# Altium footprint library Pcblib_20110825.Pcblib: 408 footprints (part 6 of 26)
Each footprint in its own frame and in the unit in brackets; x right, y up, seen from the top. Pads: shape width x height; smd on the part's side, far side on the other; paste and mask are expansions set on the pad; w line width, h text height; cw(c..) or ccw(c..) is an arc to the next point about the centre after c.
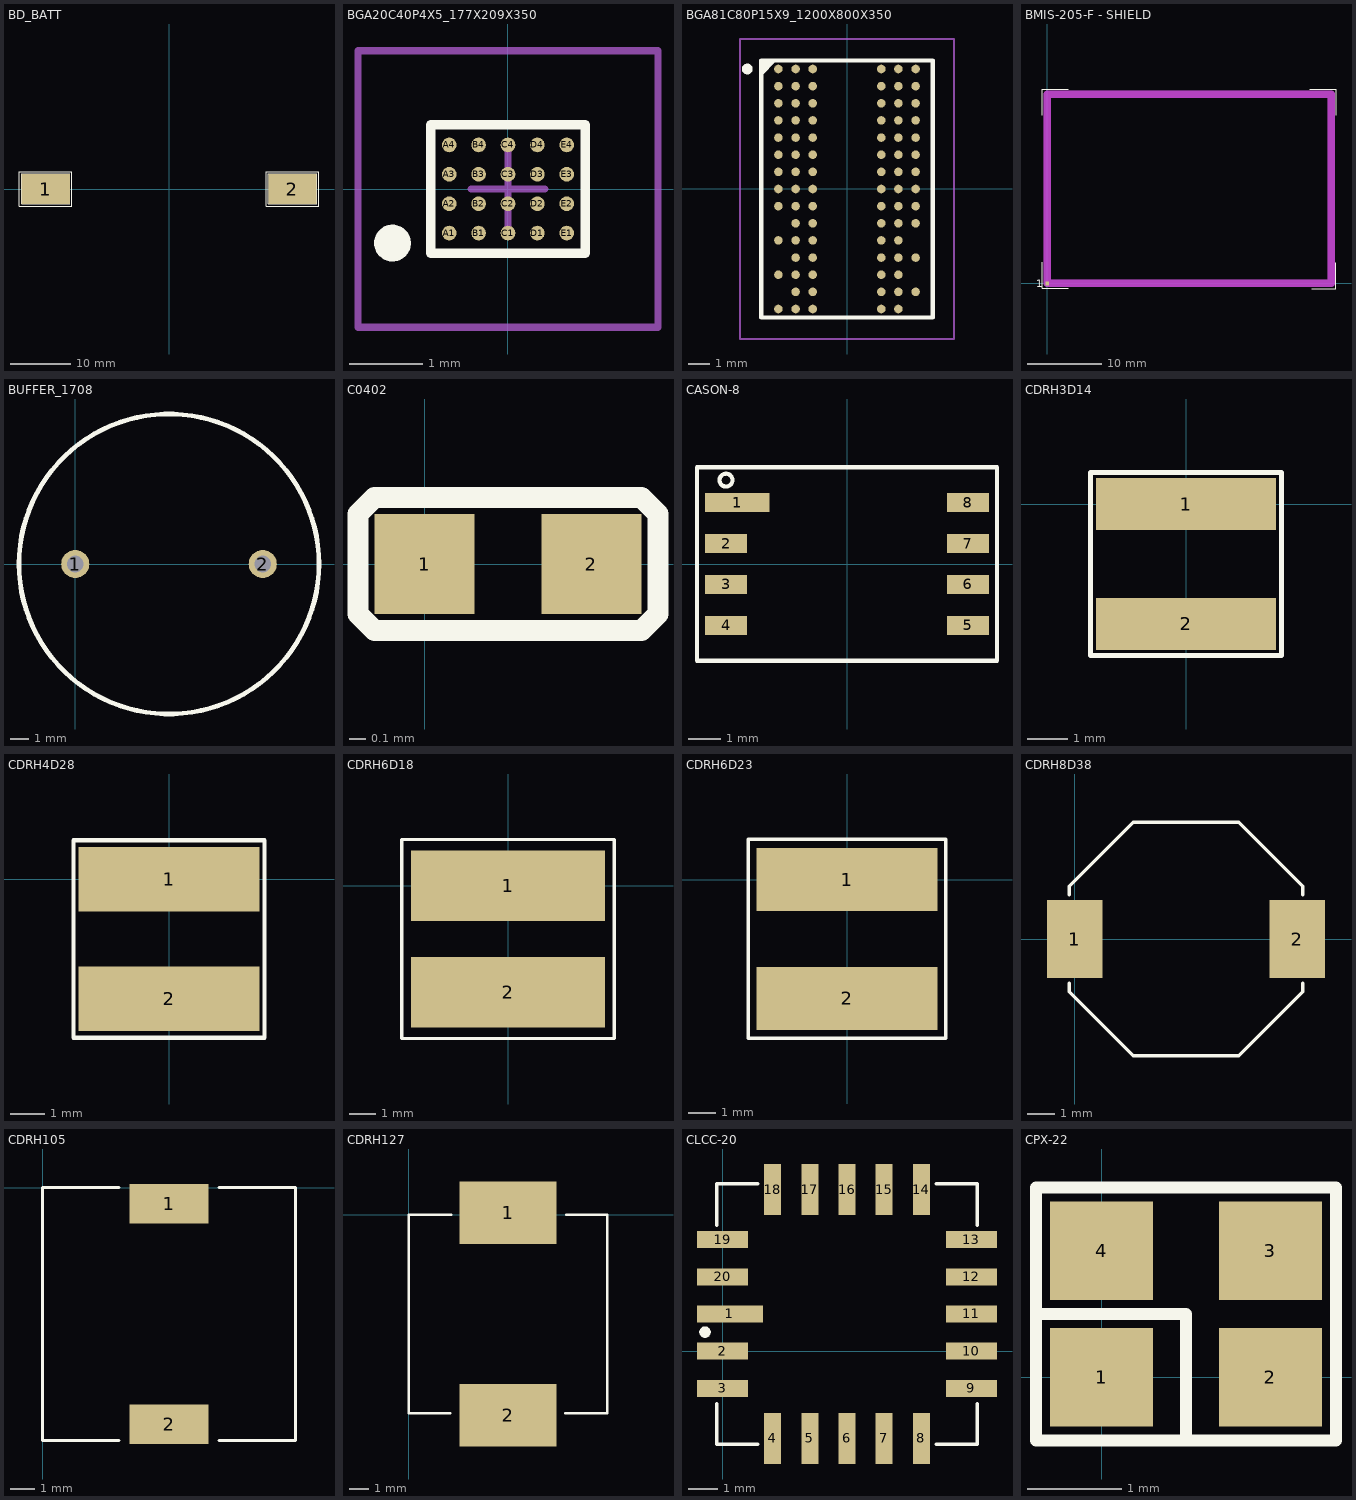
[diagram p5: the footprints below, top view; thin cyan lines are the x and y axes]

## BD_BATT [mm]
pads (2):
  rect 8x5 smd: 1(-20.475,0) 2(20.475,0)
TopOverlay:
  lines w0.178: -24.925,-2.875 -24.925,2.825 -16.128,2.825 -16.128,-2.875 -24.925,-2.875 ; -24.509,-2.487 -24.509,2.513 -16.509,2.513 -16.509,-2.487 -24.509,-2.487 ; 16.13,-2.875 16.13,2.825 24.875,2.825 24.875,-2.875 16.13,-2.875 ; 16.491,-2.487 16.491,2.513 24.491,2.513 24.491,-2.487 16.491,-2.487

## BGA20C40P4X5_177X209X350 [mm] "BGA, 20-Leads, Body 1.8x2.1mm,  Pitch 0.40mm"
height 3.5
pads (20):
  round 0.2 smd: A1(-0.8,-0.6) A2(-0.8,-0.2) A3(-0.8,0.2) A4(-0.8,0.6) B1(-0.4,-0.6) B2(-0.4,-0.2) B3(-0.4,0.2) B4(-0.4,0.6) C1(0,-0.6) C2(0,-0.2) C3(0,0.2) C4(0,0.6) D1(0.4,-0.6) D2(0.4,-0.2) D3(0.4,0.2) D4(0.4,0.6) E1(0.8,-0.6) E2(0.8,-0.2) E3(0.8,0.2) E4(0.8,0.6)
TopOverlay:
  circle w0.25: c-1.573,-0.737 r0.125
  lines w0.127: -1.05,-0.875 -1.05,0.875 1.05,0.875 1.05,-0.875 -1.05,-0.875
Mechanical15:
  lines w0.1: -0.5,0 0.5,0 ; 0,-0.5 0,0.5 ; -2.043,-1.883 -2.043,1.883 2.043,1.883 2.043,-1.883 -2.043,-1.883

## BGA81C80P15X9_1200X800X350 [mm] "BGA, 81-Leads, Body 12.0x8.0mm,  Pitch 0.80mm"
height 3.5
pads (84):
  round 0.4 smd: A1(-3.2,5.6) A2(-2.4,5.6) A3(-1.6,5.6) A7(1.6,5.6) A8(2.4,5.6) A9(3.2,5.6) B1(-3.2,4.8) B2(-2.4,4.8) B3(-1.6,4.8) B7(1.6,4.8) B8(2.4,4.8) B9(3.2,4.8) C1(-3.2,4) C2(-2.4,4) C3(-1.6,4) C7(1.6,4) C8(2.4,4) C9(3.2,4) D1(-3.2,3.2) D2(-2.4,3.2) D3(-1.6,3.2) D7(1.6,3.2) D8(2.4,3.2) D9(3.2,3.2) E1(-3.2,2.4) E2(-2.4,2.4) E3(-1.6,2.4) E7(1.6,2.4) E8(2.4,2.4) E9(3.2,2.4) F1(-3.2,1.6) F2(-2.4,1.6) F3(-1.6,1.6) F7(1.6,1.6) F8(2.4,1.6) F9(3.2,1.6) G1(-3.2,0.8) G2(-2.4,0.8) G3(-1.6,0.8) G7(1.6,0.8) G8(2.4,0.8) G9(3.2,0.8) H1(-3.2,0) H2(-2.4,0) H3(-1.6,0) H7(1.6,0) H8(2.4,0) H9(3.2,0) J1(-3.2,-0.8) J2(-2.4,-0.8) J3(-1.6,-0.8) J7(1.6,-0.8) J8(2.4,-0.8) J9(3.2,-0.8) K2(-2.4,-1.6) K3(-1.6,-1.6) K7(1.6,-1.6) K8(2.4,-1.6) K9(3.2,-1.6) L1(-3.2,-2.4) L2(-2.4,-2.4) L3(-1.6,-2.4) L7(1.6,-2.4) L8(2.4,-2.4) M2(-2.4,-3.2) M3(-1.6,-3.2) M7(1.6,-3.2) M8(2.4,-3.2) M9(3.2,-3.2) N1(-3.2,-4) N2(-2.4,-4) N3(-1.6,-4) N7(1.6,-4) N8(2.4,-4) P2(-2.4,-4.8) P3(-1.6,-4.8) P7(1.6,-4.8) P8(2.4,-4.8) P9(3.2,-4.8) R1(-3.2,-5.6) R2(-2.4,-5.6) R3(-1.6,-5.6) R7(1.6,-5.6) R8(2.4,-5.6)
TopOverlay:
  circle w0.25: c-4.65,5.6 r0.125
  region: -3.401,6 -4,5.401 -4,6
  lines w0.2: -4,5.401 -3.401,6 ; -4,-6 4,-6 4,6 -4,6 -4,-6
Mechanical13:
  lines w0.1: -4,-6 4,-6 4,6 -4,6 -4,-6
Mechanical15:
  lines w0.1: -5,-7 5,-7 5,7 -5,7 -5,-7
3D body: height 3.5, standoff 0.3, extent -4,-6 4,6

## BMIS-205-F - SHIELD [mm] "BMIS-205-F EMI Gasket - Standard Surface Mount Shields -  Laird Technologies"
height 6.5
pads (1):
  rect 0.5x0.5 smd paste-1 mask+0.05: 1(0,0)
TopOverlay:
  lines w0.1: -0.65,2.85 -0.65,-0.65 2.85,-0.65 ; -0.65,22.55 -0.65,26.05 2.85,26.05 ; 35.25,26.05 38.75,26.05 38.75,22.55 ; 35.5,-0.7 38.7,-0.7 38.7,2.8
  text "1" at -1.5,-0.5 h1
TopPaste:
  region: 37.5,22.7 37.5,25.8 38.5,25.8 38.5,22.7
  region: 37.5,16.75 37.5,20.05 38.5,20.05 38.5,16.75
  region: 37.5,10.75 37.5,14.05 38.5,14.05 38.5,10.75
  region: 37.5,5.35 37.5,8.05 38.5,8.05 38.5,5.35
  region: 37.5,-0.4 37.5,2.65 38.5,2.65 38.5,-0.4
  region: -0.4,-0.4 -0.4,2.65 0.6,2.65 0.6,-0.4
  region: -0.4,5.35 -0.4,8.05 0.6,8.05 0.6,5.35
  region: -0.4,10.75 -0.4,14.05 0.6,14.05 0.6,10.75
  region: -0.4,16.75 -0.4,20.05 0.6,20.05 0.6,16.75
  region: -0.4,22.7 -0.4,25.8 0.6,25.8 0.6,22.7
  region: 20.65,24.8 17.35,24.8 17.35,25.8 20.65,25.8
  region: 32.65,24.8 29.35,24.8 29.35,25.8 32.65,25.8
  region: 26.65,24.8 23.35,24.8 23.35,25.8 26.65,25.8
  region: 14.65,24.8 11.35,24.8 11.35,25.8 14.65,25.8
  region: 8.65,24.8 5.35,24.8 5.35,25.8 8.65,25.8
  region: 38.4,24.8 35.35,24.8 35.35,25.8 38.4,25.8
  region: 2.65,24.8 -0.4,24.8 -0.4,25.8 2.65,25.8
  region: 2.65,-0.4 -0.4,-0.4 -0.4,0.6 2.65,0.6
  region: 38.4,-0.4 35.35,-0.4 35.35,0.6 38.4,0.6
  region: 8.65,-0.4 5.35,-0.4 5.35,0.6 8.65,0.6
  region: 14.65,-0.4 11.35,-0.4 11.35,0.6 14.65,0.6
  region: 26.65,-0.4 23.35,-0.4 23.35,0.6 26.65,0.6
  region: 32.65,-0.4 29.35,-0.4 29.35,0.6 32.65,0.6
  region: 20.65,-0.4 17.35,-0.4 17.35,0.6 20.65,0.6
TopSolder:
  region: 20.65,-0.4 17.35,-0.4 17.35,0.6 20.65,0.6
  region: 32.65,-0.4 29.35,-0.4 29.35,0.6 32.65,0.6
  region: 26.65,-0.4 23.35,-0.4 23.35,0.6 26.65,0.6
  region: 14.65,-0.4 11.35,-0.4 11.35,0.6 14.65,0.6
  region: 8.65,-0.4 5.35,-0.4 5.35,0.6 8.65,0.6
  region: 38.4,-0.4 35.35,-0.4 35.35,0.6 38.4,0.6
  region: 2.65,-0.4 -0.4,-0.4 -0.4,0.6 2.65,0.6
  region: 2.65,24.8 -0.4,24.8 -0.4,25.8 2.65,25.8
  region: 38.4,24.8 35.35,24.8 35.35,25.8 38.4,25.8
  region: 8.65,24.8 5.35,24.8 5.35,25.8 8.65,25.8
  region: 14.65,24.8 11.35,24.8 11.35,25.8 14.65,25.8
  region: 26.65,24.8 23.35,24.8 23.35,25.8 26.65,25.8
  region: 32.65,24.8 29.35,24.8 29.35,25.8 32.65,25.8
  region: 20.65,24.8 17.35,24.8 17.35,25.8 20.65,25.8
  region: -0.4,22.7 -0.4,25.8 0.6,25.8 0.6,22.7
  region: -0.4,16.75 -0.4,20.05 0.6,20.05 0.6,16.75
  region: -0.4,10.75 -0.4,14.05 0.6,14.05 0.6,10.75
  region: -0.4,5.35 -0.4,8.05 0.6,8.05 0.6,5.35
  region: -0.4,-0.4 -0.4,2.65 0.6,2.65 0.6,-0.4
  region: 37.5,-0.4 37.5,2.65 38.5,2.65 38.5,-0.4
  region: 37.5,5.35 37.5,8.05 38.5,8.05 38.5,5.35
  region: 37.5,10.75 37.5,14.05 38.5,14.05 38.5,10.75
  region: 37.5,16.75 37.5,20.05 38.5,20.05 38.5,16.75
  region: 37.5,22.7 37.5,25.8 38.5,25.8 38.5,22.7
Mechanical15 keep-out:
  lines w1: 0,0 0,25.4 38.1,25.4 38.1,0 0,0
3D body: height 6.5, standoff 0, extent -0.3,-0.3 0.3,0.3

## BUFFER_1708 [mm]
pads (2):
  round 1.5 hole 0.9: 1(0,0) 2(10,0)
TopOverlay:
  circle w0.254: c5,0 r8

## C0402 [mm]
pads (2):
  rect 0.6x0.6 smd: 1(0,0) 2(1,0)
TopOverlay:
  lines w0.127: -0.4,-0.3 -0.3,-0.4 1.3,-0.4 ; -0.4,-0.3 -0.4,-0.3 ; -0.4,-0.3 -0.4,0.3 ; -0.4,0.3 -0.3,0.4 1.3,0.4 1.4,0.3 ; -0.4,0.3 -0.4,0.3 ; 1.3,-0.4 1.4,-0.3 ; 1.3,-0.4 1.3,-0.4 ; 1.4,-0.3 1.4,-0.3 ; 1.4,-0.3 1.4,0.3 ; 1.4,0.3 1.4,0.3

## CASON-8 [mm]
pads (8):
  rect 2x0.6 smd: 1(-3.4,1.905)
  rect 1.3x0.6 smd: 2(-3.75,0.635) 3(-3.75,-0.635) 4(-3.75,-1.905) 5(3.75,-1.905) 6(3.75,-0.635) 7(3.75,0.635) 8(3.75,1.905)
TopOverlay:
  circle w0.127: c-3.75,2.6 r0.2
  lines w0.127: -4.65,-3 -4.65,3 4.65,3 4.65,-3 -4.65,-3

## CDRH3D14 [mm]
pads (2):
  rect 4.5x1.3 smd: 1(0,0) 2(0,-3)
TopOverlay:
  lines w0.127: -2.388,-3.785 -2.388,0.787 2.388,0.787 2.388,-3.785 -2.388,-3.785

## CDRH4D28 [mm]
pads (2):
  rect 5.3x1.9 smd: 1(0,0) 2(0,-3.5)
TopOverlay:
  lines w0.127: -2.8,-4.65 2.8,-4.65 2.8,1.15 -2.8,1.15 -2.8,-4.65

## CDRH6D18 [mm]
pads (2):
  rect 7.3x2.65 smd: 1(0,0) 2(0,-4)
TopOverlay:
  lines w0.127: -4,-5.75 4,-5.75 4,1.75 -4,1.75 -4,-5.75

## CDRH6D23 [mm]
pads (2):
  rect 6.5x2.26 smd: 1(0,0) 2(0,-4.25)
TopOverlay:
  lines w0.127: -3.531,-5.69 -3.531,1.448 3.531,1.448 3.531,-5.69 -3.531,-5.69

## CDRH8D38 [mm]
pads (2):
  rect 2x2.8 smd: 1(0,0) 2(8,0)
TopOverlay:
  lines w0.127: -0.2,-1.6 -0.2,-1.9 2.1,-4.2 5.9,-4.2 8.2,-1.9 8.2,-1.6 ; -0.2,1.6 -0.2,1.9 2.1,4.2 5.9,4.2 8.2,1.9 8.2,1.6

## CDRH105 [mm]
height 11.1
pads (2):
  rect 3.2x1.6 smd: 1(5.1,-0.65) 2(5.1,-9.55)
TopOverlay:
  lines w0.127: 3.088,-10.2 0,-10.2 0,0 3.088,0 ; 7.112,-10.2 10.2,-10.2 10.2,0 7.112,0

## CDRH127 [mm]
height 11.1
pads (2):
  rect 5x3.2 smd: 1(5.1,0.1) 2(5.1,-10.3)
TopOverlay:
  lines w0.127: 2.134,-10.2 0,-10.2 0,0 2.184,0 ; 8.026,-10.2 10.2,-10.2 10.2,0 8.077,0

## CLCC-20 [mm]
height 2.1
pads (21):
  rect 2.25x0.58 smd: 1(0.25,1.27)
  rect 1.75x0.58 smd: 2(0,0) 3(0,-1.27) 9(8.5,-1.27) 10(8.5,0) 11(8.5,1.27) 12(8.5,2.54) 13(8.5,3.81) 19(0,3.81) 20(0,2.54)
  rect 0.58x1.75 smd: 4(1.71,-2.98) 5(2.98,-2.98) 6(4.25,-2.98) 7(5.52,-2.98) 8(6.79,-2.98) 14(6.79,5.52) 15(5.52,5.52) 16(4.25,5.52) 17(2.98,5.52) 18(1.71,5.52)
  round 0.4 on Top Overlay: ""(-0.6,0.65)
TopOverlay:
  lines w0.127: -0.2,-1.8 -0.2,-3.18 1.2,-3.18 ; -0.2,4.3 -0.2,5.72 1.2,5.72 ; 7.3,-3.18 8.7,-3.18 8.7,-1.8 ; 7.3,5.72 8.7,5.72 8.7,4.3

## CPX-22 [mm]
pads (4):
  rect 1.1x1.05 smd: 1(0,0) 2(1.8,0) 3(1.8,1.35) 4(0,1.35)
TopOverlay:
  lines w0.127: -0.7,0.675 0.9,0.675 0.9,-0.675 ; -0.7,-0.675 -0.7,2.025 2.5,2.025 2.5,-0.675 -0.7,-0.675